# Altium schematic symbol library Common Mode Choke.SchLib: 1 symbol
Pins are listed as number, name and electrical type; pins without a type are passive.

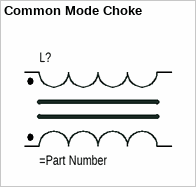
[diagram p0: symbol Common Mode Choke]

## Common Mode Choke
designator L?
pins: 1, 2, 3, 4